# Altium schematic symbol library 光耦.SchLib: 2 symbols
Pins are listed as number, name and electrical type; pins without a type are passive.

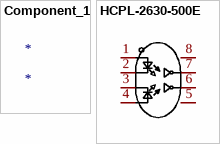
[diagram p0: symbols Component_1 to HCPL-2630-500E]

## Component_1
designator *

## HCPL-2630-500E
designator U??  (value not drawn)
Manufacturer: AVAGO(安华高); Add into BOM: yes; Number of Channels: 2; Isolation Voltage: 3.75kV; Input Type: DC; Common Mode Transient Immunity (CMTI): 5kV/us; Data Rate: 10Mbit/s; Propagation Delay tpLH/tpHL: 75ns,75ns; Supply Voltage: 4.5V~5.5V; Name: HCPL-2630-500E; Symbol: HCPL-2630-500E; Device: HCPL-2630-500E; LCSC Part Name: HCPL-2630-500E （8-SMD，鸥翼）; Supplier Part: C545699; Manufacturer Part: HCPL-2630-500E; Supplier Footprint: SOP-8-2.54mm; JLCPCB Part Class: Extended Part; Datasheet: https://atta.szlcsc.com/upload/public/pdf/source/20200518/C545699_778EBA3A7E4C4440F7D26D10CC34E31C.pdf; Supplier: LCSC; Convert to PCB: yes; Operating Temperature: -40℃~+85℃
footprint SMD-8_L9.7-W6.4-P2.54-LS9.7-BL
3D model SMD-8_L9.6-W6.4-H4.5-LS9.6-P2.54
pins: 1 ANODE 1, 2 CATHODE 1, 3 CATHODE 2, 4 ANODE 2, 5 GND, 6 VO2, 7 VO1, 8 VCC